# Altium schematic symbol library STM32G030F6P6.Schlib: 1 symbol
Pins are listed as number, name and electrical type; pins without a type are passive.

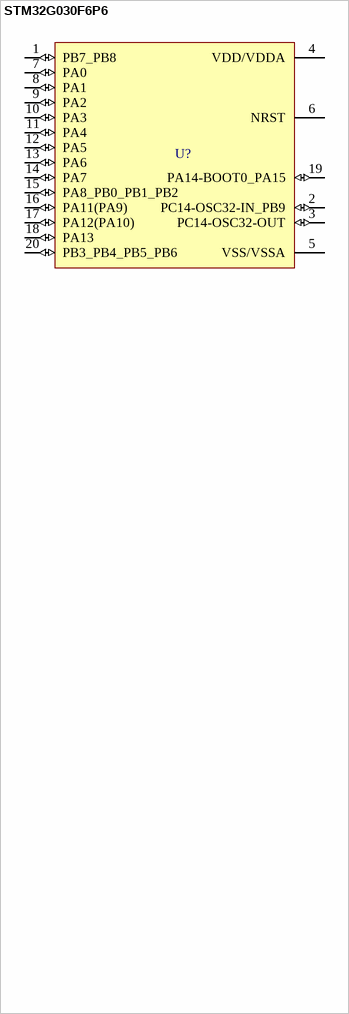
[diagram p0: symbol STM32G030F6P6]

## STM32G030F6P6
designator U?
ARM Cortex-M0+
pins: 1 PB7_PB8 (io), 2 PC14-OSC32-IN_PB9 (io), 3 PC14-OSC32-OUT (io), 4 VDD/VDDA (power), 5 VSS/VSSA (power), 6 NRST, 7 PA0 (io), 8 PA1 (io), 9 PA2 (io), 10 PA3 (io), 11 PA4 (io), 12 PA5 (io), 13 PA6 (io), 14 PA7 (io), 15 PA8_PB0_PB1_PB2 (io), 16 PA11(PA9) (io), 17 PA12(PA10) (io), 18 PA13 (io), 19 PA14-BOOT0_PA15 (io), 20 PB3_PB4_PB5_PB6 (io)